# EAGLE library part TNY256 (library TOP-Switcher)
Energy efficient, Low Power Off-line Switcher ( 8...15W)
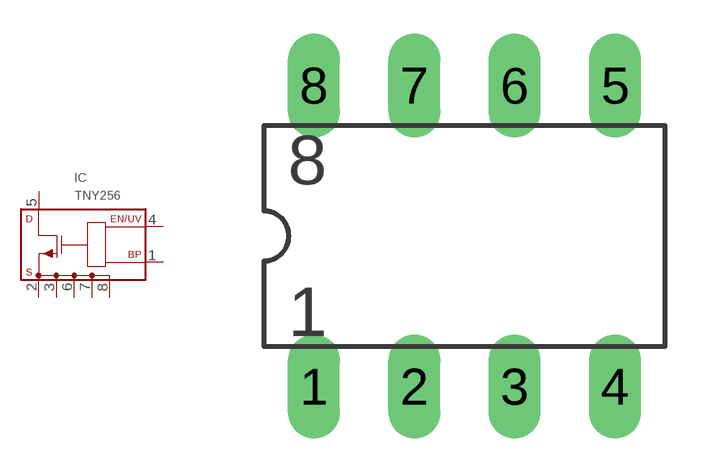
[diagram p0: symbol with the pads of DIP8; footprint DIP8]

Designator prefix IC

## TNY256DIP  [DIP8]
1  BP
2  S2
3  S3
4  EN/UV
5  D
6  S6
7  S7
8  S8

## Footprint DIP8 (pad centres in mm)
drill 0.813 long: 1 -3.81,-3.81; 2 -1.27,-3.81; 3 1.27,-3.81; 4 3.81,-3.81; 5 3.81,3.81; 6 1.27,3.81; 7 -1.27,3.81; 8 -3.81,3.81